# EAGLE library part INA199A1DCKR (library INA199A1DCKR)
CURRENT SHUNT MONITOR
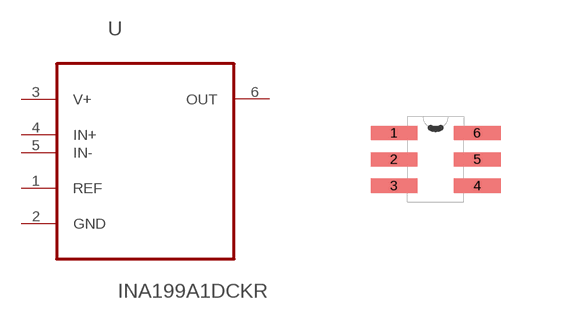
[diagram p0: symbol with the pads of SOT65P210X110-6N; footprint SOT65P210X110-6N]

Designator prefix U

## INA199A1DCKR (Description: 26-V, Bi-Directional, Zero-Drift, Low- or High-Side, Voltage Output Current Shunt Monitor 6-SC70 -40 to 125; MF: Texas Instruments; MP: INA199A1DCKR; Package: SC-70-6 Texas Instruments)  [SOT65P210X110-6N]
1  REF  in
2  GND  pas
3  V+  pwr
4  IN+  in
5  IN-  in
6  OUT  out

## Footprint SOT65P210X110-6N (pad centres in mm)
smd 1.168 x 0.356: 1 -1.041,0.66; 2 -1.041,0; 3 -1.041,-0.66; 4 1.041,-0.66; 5 1.041,0; 6 1.041,0.66